# Altium schematic symbol library Connectors.SchLib: 46 symbols
Pins are listed as number, name and electrical type; pins without a type are passive.

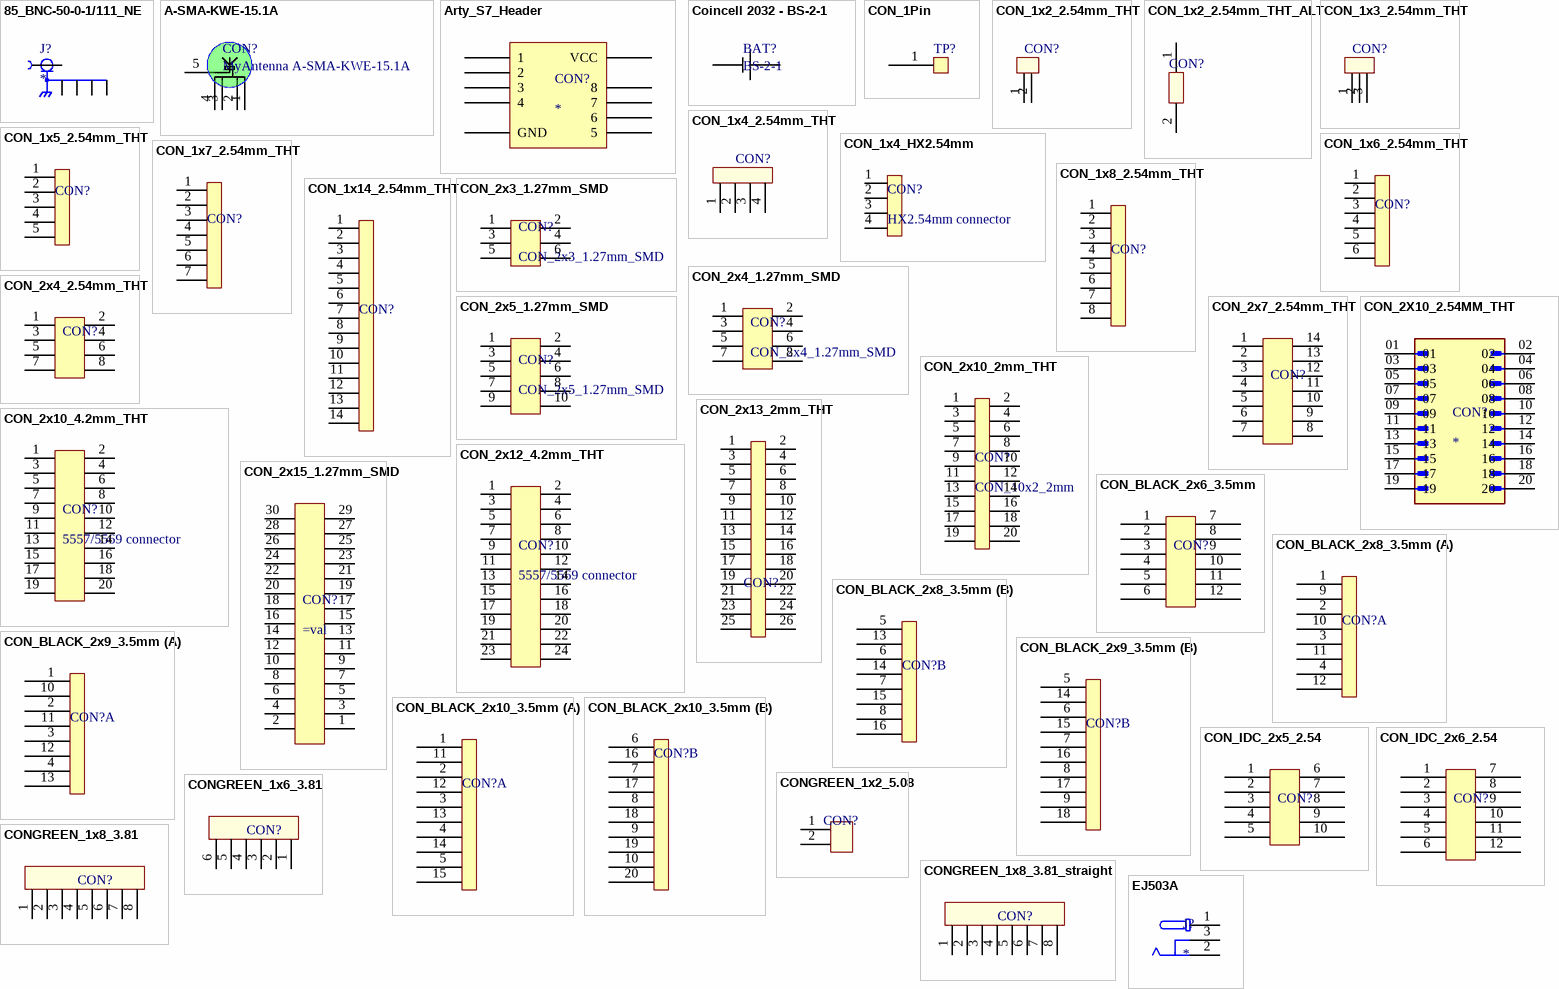
[diagram p0: symbols 85_BNC-50-0-1/111_NE to EJ503A]

## 85_BNC-50-0-1/111_NE
designator J?
RF PCB Connector, 85BNC-50-0-1111NE | HUBER+SUHNER 85_BNC-50-0-1/111_NE; SnapEDA_Link: https://www.snapeda.com/parts/85_BNC-50-0-1/111_NE/Huber%252BSuhner/view-part/?ref=snap; Package: None; Value: *; MF: HUBER+SUHNER; MP: 85_BNC-50-0-1/111_NE; Check_prices: https://www.snapeda.com/parts/85_BNC-50-0-1/111_NE/Huber%252BSuhner/view-part/?ref=eda
footprint HUBER+SUHNER_85_BNC-50-0-1/111_NE
pins: 1, G1 (power), G2 (power), G3 (power), G4 (power)

## A-SMA-KWE-15.1A
designator CON?, comment MyAntenna A-SMA-KWE-15.1A
SMA Connector - 1 Inner Bore SMA Board Side Elbow 6GHz 50Ω 5.35mm Through Hole Coaxial Connector (RF) Adapters RoHS; val: MyAntenna A-SMA-KWE-15.1A; sample link: https://www.lcsc.com/product-detail/C49253491.html?s_z=n_SMA
footprint A-SMA-KWE-15.1A (1 Inner Bore SMA Board Side Elbow 6GHz 50Ω 5.35mm Through Hole Coaxial Connector (RF) Adapters RoHS)
pins: 1, 2, 3, 4, 5

## Arty_S7_Header
designator CON?
footprint CON_2x6_2.54MM_THT; pin to pad 5>5+11 6>6+12
pins: 1, 2, 3, 4, 5 GND (power), 6 VCC (power), 7 5, 8 6, 9 7, 10 8

## Coincell 2032 - BS-2-1
designator BAT?, comment BS-2-1
Coincell 2032 - BS-2-1; note: any manufacturer; val: BS-2-1; sample link: https://item.taobao.com/item.htm?abbucket=2&id=38536074730&ns=1&spm=a230r.1.14.36.6b9547cfXdt8x6
footprint Coincell_2032
pins: 1, 2

## CON_1Pin
designator TP?  (value not drawn)
Single THT Pad; note: NC; val: *
footprint CON_1Pin
pins: 1

## CON_1x2_2.54mm_THT
designator CON?, comment 1x4 2.54mm THT  (value not drawn)
CON_1x2_2.54mm_THT; note: any manufacturer; val: 1x4 2.54mm THT
footprint CON_1x2_2.54MM_THT (Chip Resistor, 2-Leads, Body 5,20x3,30mm, IPC Medium Density)
pins: 1 "PWR", 2 "I"

## CON_1x2_2.54mm_THT_ALT
designator CON?, comment 1x4 2.54mm THT  (value not drawn)
CON_1x2_2.54mm_THT; note: any manufacturer; val: 1x4 2.54mm THT
footprint CON_1x2_2.54MM_THT (Chip Resistor, 2-Leads, Body 5,20x3,30mm, IPC Medium Density)
pins: 1 "PWR", 2 "I"

## CON_1x3_2.54mm_THT
designator CON?, comment 1x3 2.54mm THT  (value not drawn)
CON_1x3_2.54mm_THT; note: any manufacturer; val: 1x3 2.54mm THT
footprint CON_1x3_2.54MM_THT (Chip Resistor, 2-Leads, Body 5,20x3,30mm, IPC Medium Density)
pins: 1 "PWR", 2 "I", 3 "I"

## CON_1x4_2.54mm_THT
designator CON?, comment 1x4 2.54mm THT  (value not drawn)
CON_1x4_2.54mm_THT; note: any manufacturer; val: 1x4 2.54mm THT
footprint CON_1x4_2.54MM_THT (Chip Resistor, 2-Leads, Body 5,20x3,30mm, IPC Medium Density)
pins: 1 "PWR", 2 "I", 3 "I", 4 "I"

## CON_1x4_HX2.54mm
designator CON?, comment HX2.54mm connector
4 Pin HX2.54mm Connector Straight Needle THT; val: HX2.54mm connector; sample link: https://item.taobao.com/item.htm?ali_refid=a3_430582_1006%3A1152101030%3AH%3AfECOJjAJsAVR%2BlV4HdXu0w%3D%3D%3Aff1c71a36a83a51d569faca3e6e2a003&ali_trackid=282_ff1c71a36a83a51d569faca3e6e2a003&id=609608021291&mi_id=0000quewLQZSFLFE1VxBLvft_H3MzoN4Rq4bTtf1JTcVhOg&mm_sceneid=1_0_131154039_0&priceTId=2100c82017726909854371638e0cc7&skuId=4282636056709&spm=a21n57.1.hoverItem.1&utparam=%7B%22aplus_abtest%22%3A%22fb4c3022eff1f28742f3a1e939f5d12a%22%7D&xxc=ad_ztc; sample link 2: https://item.taobao.com/item.htm?abbucket=7&id=597409212146&mi_id=0000Dv6-Sh6HdzdhlDj_dX79iQDtOYoD7Rc0flFh8CmAyxg&ns=1&priceTId=2100c82017726912298546935e0cc7&skuId=4248469041168&spm=a21n57.imgsearch.item.2&utparam=%7B%22aplus_abtest%22%3A%22a76dc8be5391ba4e801be3f8b99bb3a2%22%7D&xxc=taobaoSearch
footprint CON_1x4_HX2.54mm
pins: 1, 2, 3, 4

## CON_1x5_2.54mm_THT
designator CON?, comment 1x5 2.54mm  (value not drawn)
CON_1x5_2.54mm_THT; note: any manufacturer; val: 1x5 2.54mm
footprint CON_1x5_2.54MM_THT
pins: 1, 2, 3, 4, 5

## CON_1x6_2.54mm_THT
designator CON?, comment 1x6 2.54mm  (value not drawn)
CON_1x6_2.54mm_THT; note: any manufacturer; val: 1x6 2.54mm
footprint CON_1x6_2.54MM_THT
pins: 1, 2, 3, 4, 5, 6

## CON_1x7_2.54mm_THT
designator CON?, comment 1x7 2.54mm  (value not drawn)
CON_1x7_2.54mm_THT; note: any manufacturer; val: 1x7 2.54mm
footprint CON_1x7_2.54MM_THT
pins: 1, 2, 3, 4, 5, 6, 7

## CON_1x8_2.54mm_THT
designator CON?, comment 1x8 2.54mm  (value not drawn)
CON_1x8_2.54mm_THT; note: any manufacturer; val: 1x8 2.54mm
footprint CON_1x8_2.54MM_THT (Chip Resistor, 2-Leads, Body 5,20x3,30mm, IPC Medium Density)
pins: 1, 2, 3, 4, 5, 6, 7, 8

## CON_1x14_2.54mm_THT
designator CON?, comment 1x14 2.54mm  (value not drawn)
CON_1x14_2.54mm_THT; note: any manufacturer; val: 1x14 2.54mm
footprint CON_1X14_2.54MM_THT
pins: 1, 2, 3, 4, 5, 6, 7, 8, 9, 10, 11, 12, 13, 14

## CON_2x3_1.27mm_SMD
designator CON?
CON_2x4_1.27mm SMD; sample link: https://detail.tmall.com/item.htm?abbucket=7&id=542887739976&mi_id=00001byeTU42Nw8JpqvEEJw3_ofET_pYYvzusNPfAkYixoU&ns=1&skuId=3428605315590&spm=a21n57.1.hoverItem.7&utparam=%7B%22aplus_abtest%22%3A%22c8a12318f0deb53d81deeb3f6362248f%22%7D&xxc=taobaoSearch; val: CON_2x3_1.27mm_SMD
footprint CON_2x3_1.27mm_SMD
pins: 1, 2, 3, 4, 5, 6

## CON_2x4_1.27mm_SMD
designator CON?
CON_2x4_1.27mm SMD with positioning pegs; val: CON_2x4_1.27mm_SMD; sample link: https://item.taobao.com/item.htm?abbucket=7&id=990364773282&mi_id=0000PUgFQrwyk5zXe0LhPjupg4-RZI5iYj2pUu42m8jPTP4&ns=1&priceTId=2100c91e17720165420351112e0d0f&skuId=6122925414288&spm=a21n57.1.hoverItem.9&utparam=%7B%22aplus_abtest%22%3A%22e514192708b4c6914c5abc03ef6ba092%22%7D&xxc=taobaoSearch
footprint CON_2x4_1.27mm_SMD
pins: 1, 2, 3, 4, 5, 6, 7, 8

## CON_2x4_2.54mm_THT
designator CON?, comment 2x4 2.54mm THT  (value not drawn)
CON_2x4_2.54mm_THT; note: any manufacturer; val: 2x4 2.54mm THT
footprint CON_2x4_2.54MM_THT
pins: 1, 2, 3, 4, 5, 6, 7, 8

## CON_2x5_1.27mm_SMD
designator CON?
CON_2x5_1.27mm SMD with positioning pegs; sample link: https://item.taobao.com/item.htm?abbucket=7&id=990364773282&mi_id=0000PUgFQrwyk5zXe0LhPjupg4-RZI5iYj2pUu42m8jPTP4&ns=1&priceTId=2100c91e17720165420351112e0d0f&skuId=6122925414289&spm=a21n57.1.hoverItem.9&utparam=%7B%22aplus_abtest%22%3A%22e514192708b4c6914c5abc03ef6ba092%22%7D&xxc=taobaoSearch; val: CON_2x5_1.27mm_SMD
footprint CON_2x5_1.27mm_SMD
pins: 1, 2, 3, 4, 5, 6, 7, 8, 9, 10

## CON_2x7_2.54mm_THT
designator CON?, comment 2x7 2.54mm  (value not drawn)
CON_2x7_2.54mm_THT; note: any manufacturer; val: 2x7 2.54mm
footprint CON_2x7_2.54MM_THT
pins: 1, 2, 3, 4, 5, 6, 7, 8, 9, 10, 11, 12, 13 "PWR", 14 "PWR"

## CON_2X10_2.54MM_THT
designator CON?
MP: VMHD-2x10-150-095-030; Availability: Unavailable; Package: None; Price: None; Value: *
footprint CON_2X10_2.54MM_THT
pins: 01, 02, 03, 04, 05, 06, 07, 08, 09, 10, 11, 12, 13, 14, 15, 16, 17, 18, 19, 20

## CON_2x10_2mm_THT
designator CON?, comment CON_10x2_2mm
CON_2x10_2mm_THT Straight Pin; sample link: https://item.taobao.com/item.htm?id=534188799238&spm=a1z10.5-c.w4002-17382155375.12.655756c29WaZFO&sku_properties=1627207%3A2525007165; val: CON_10x2_2mm
footprint CON_2x10_2mm_THT
pins: 1, 2, 3, 4, 5, 6, 7, 8, 9, 10, 11, 12, 13, 14, 15, 16, 17, 18, 19, 20

## CON_2x10_4.2mm_THT
designator CON?, comment 5557/5569 connector
CON_2x10_4.2mm_THT Straight Pin; sample link: https://item.taobao.com/item.htm?abbucket=17&id=557446625982&ns=1&spm=a230r.1.14.26.4ae16218Zr5FXY&skuId=3456302328403; val: 5557/5569 connector
footprint CON_2x10_4.2mm_THT
pins: 1, 2, 3, 4, 5, 6, 7, 8, 9, 10, 11, 12, 13, 14, 15, 16, 17, 18, 19, 20

## CON_2x12_4.2mm_THT
designator CON?, comment 5557/5569 connector
CON_2x12_4.2mm_THT Straight Pin; sample link: https://item.taobao.com/item.htm?abbucket=17&id=557446625982&ns=1&skuId=3642191258094&spm=a230r.1.14.26.4ae16218Zr5FXY; val: 5557/5569 connector
footprint CON_2x12_4.2mm_THT
pins: 1, 2, 3, 4, 5, 6, 7, 8, 9, 10, 11, 12, 13, 14, 15, 16, 17, 18, 19, 20, 21, 22, 23, 24

## CON_2x13_2mm_THT
designator CON?  (value not drawn)
CON_2x13_2mm_AWP26_2mm; val: CON_2x13_2mm_THT; sample link: https://item.taobao.com/item.htm?id=534188799238&spm=a1z10.5-c.w4002-17382155375.12.655756c29WaZFO&sku_properties=1627207%3A2525007167
footprint CON_2x13_2mm_THT
pins: 1, 2, 3, 4, 5, 6, 7, 8, 9, 10, 11, 12, 13, 14, 15, 16, 17, 18, 19, 20, 21 "I", 22 "I", 23 "I", 24 "I", 25 "I", 26 "I"

## CON_2x15_1.27mm_SMD
designator CON?
CON_2x15_1.27mm SMD with positioning pegs; sample link: https://item.taobao.com/item.htm?abbucket=7&id=990364773282&mi_id=0000PUgFQrwyk5zXe0LhPjupg4-RZI5iYj2pUu42m8jPTP4&ns=1&priceTId=2100c91e17720165420351112e0d0f&skuId=6122925414294&spm=a21n57.1.hoverItem.9&utparam=%7B%22aplus_abtest%22%3A%22e514192708b4c6914c5abc03ef6ba092%22%7D&xxc=taobaoSearch
footprint CON_2x15_1.27mm_SMD
pins: 1, 2, 3, 4, 5, 6, 7, 8, 9, 10, 11, 12, 13, 14, 15, 16, 17, 18, 19, 20, 21, 22, 23, 24, 25, 26, 27, 28, 29, 30

## CON_BLACK_2x6_3.5mm
designator CON?, comment KF2EDGSV-3.5-2*8P  (value not drawn)
300V -40℃~+105℃ 8 10A Black 3.5mm Board Side/Socket - Closed 2 2x8P Straight Pin Through Hole,P=3.5mm Headers, Plugs and Sockets RoHS; note: any manufacturer; val: KF2EDGSV-3.5-2*8P; sample link: https://item.taobao.com/item.htm?id=654108697549&last_time=1765862189&mi_id=00003wfGBEcvtUKEhEmhOd_nwq-6bMiOgI4-hHG0audKinI&scm=1007.13982.82927.0&spm=tbpc.mytb_footmark.item.goods&upStreamPrice=80&skuId=4896664375717
footprint CON_BLACK_2X6_3.5MM
pins: 1, 2, 3, 4, 5, 6, 7, 8, 9, 10, 11, 12

## CON_BLACK_2x8_3.5mm
designator CON?, comment KF2EDGSV-3.5-2*8P  (value not drawn)
300V -40℃~+105℃ 8 10A Black 3.5mm Board Side/Socket - Closed 2 2x8P Straight Pin Through Hole,P=3.5mm Headers, Plugs and Sockets RoHS; note: any manufacturer; val: KF2EDGSV-3.5-2*8P; sample link: https://item.taobao.com/item.htm?id=654108697549&last_time=1765862189&mi_id=00003wfGBEcvtUKEhEmhOd_nwq-6bMiOgI4-hHG0audKinI&scm=1007.13982.82927.0&spm=tbpc.mytb_footmark.item.goods&upStreamPrice=80&skuId=4896664375717
footprint CON_BLACK_2x8_3.5mm (15EDGKNH KF2EDGKS 3.5 Double-layer spring-loaded PCB terminal block 2EDGSR black terminal)
part A pins: 1, 2, 3, 4, 9, 10, 11, 12
part B pins: 5 15, 6, 7, 8, 13, 14, 15, 16

## CON_BLACK_2x9_3.5mm
designator CON?, comment KF2EDGSV-3.5-2*8P  (value not drawn)
300V -40℃~+105℃ 8 10A Black 3.5mm Board Side/Socket - Closed 2 2x8P Straight Pin Through Hole,P=3.5mm Headers, Plugs and Sockets RoHS; note: any manufacturer; val: KF2EDGSV-3.5-2*8P; sample link: https://item.taobao.com/item.htm?id=654108697549&last_time=1765862189&mi_id=00003wfGBEcvtUKEhEmhOd_nwq-6bMiOgI4-hHG0audKinI&scm=1007.13982.82927.0&sku_properties=1627207%3A387614636&spm=tbpc.mytb_footmark.item.goods&upStreamPrice=80
footprint CON_BLACK_2x9_3.5mm (15EDGKNH KF2EDGKS 3.5 Double-layer spring-loaded PCB terminal block 2EDGSR black terminal)
part A pins: 1, 2, 3, 4, 10, 11, 12, 13
part B pins: 5 15, 6, 7, 8, 9, 14, 15, 16, 17, 18

## CON_BLACK_2x10_3.5mm
designator CON?, comment KF2EDGSV-3.5-2*8P  (value not drawn)
300V -40℃~+105℃ 8 10A Black 3.5mm Board Side/Socket - Closed 2 2x8P Straight Pin Through Hole,P=3.5mm Headers, Plugs and Sockets RoHS; note: any manufacturer; val: KF2EDGSV-3.5-2*8P; sample link: https://item.taobao.com/item.htm?id=654108697549&last_time=1765862189&mi_id=00003wfGBEcvtUKEhEmhOd_nwq-6bMiOgI4-hHG0audKinI&scm=1007.13982.82927.0&sku_properties=1627207%3A402630518&spm=tbpc.mytb_footmark.item.goods&upStreamPrice=80
footprint CON_BLACK_2x10_3.5mm (15EDGKNH KF2EDGKS 3.5 Double-layer spring-loaded PCB terminal block 2EDGSR black terminal)
part A pins: 1, 2, 3, 4, 5, 11, 12, 13, 14, 15
part B pins: 6, 7, 8, 9, 10, 16, 17, 18, 19, 20

## CON_IDC_2x5_2.54
designator CON?, comment BOOMELE(Boom Precision Elec) 2.54-2*5P  (value not drawn)
IDC Connector 2x5 2.54mm pitch; note: any manufacturer; sample link: https://www.lcsc.com/product-detail/C5665.html?s_z=n_BOOMELE%28Boom%2520Precision%2520Elec%29%25202.54-2%2a5P; val: BOOMELE(Boom Precision Elec) 2.54-2*5P; sample link 2: https://item.taobao.com/item.htm?abbucket=6&id=993023982089&mi_id=0000GEDCW2nKoxRS0fGuseLde_Ydw6WZPxIkokftyIfzx-o&ns=1&priceTId=2100c88e17726963391222098e0cf7&skuId=5969453845356&spm=a21n57.1.hoverItem.2&utparam=%7B%22aplus_abtest%22%3A%22b8c570614af0c2c915e1844a14ab4fb4%22%7D&xxc=taobaoSearch
footprint CON_IDC_2x5_2.54
pins: 1, 2, 3, 4, 5, 6, 7, 8, 9, 10

## CON_IDC_2x6_2.54
designator CON?, comment BOOMELE(Boom Precision Elec) 2.54-2*6P  (value not drawn)
IDC Connector 2x6 2.54mm pitch; note: any manufacturer; sample link: https://www.lcsc.com/product-detail/C9136.html; val: BOOMELE(Boom Precision Elec) 2.54-2*6P
footprint CON_IDC_2x6_2.54
pins: 1, 2, 3, 4, 5, 6, 7, 8, 9, 10, 11, 12

## CONGREEN_1x2_5.08
designator CON?, comment KF2EDGV-bend-5.08-2p  (value not drawn)
Green Connector; / 90 Deg; / Standard Power CON;; note: any manufacturer; val: KF2EDGV-bend-5.08-2p; sample link: https://item.taobao.com/item.htm?id=627937673630&ali_refid=a3_430620_1006:1357150152:N:qcFFAXKWVXPiAomGkMlNEA%3D%3D:4aff8ccc3e7e8f00aa33368873902164&ali_trackid=230_4aff8ccc3e7e8f00aa33368873902164&spm=a230r.1.14.8#detail
footprint CONGREEN_1x2_5.08
pins: 1, 2

## CONGREEN_1x6_3.81
designator CON?, comment KF2EDGV-bend-3.81-6p  (value not drawn)
note: any manufacturer; val: KF2EDGV-bend-3.81-6p; sample link: https://detail.tmall.com/item.htm?abbucket=7&id=563239224672&mi_id=0000eNg2RX4a54sA2dO6nQBcXewI5pOIaHq0cbOnq7H1ZG4&ns=1&priceTId=2100c82417719338414588309e0c91&skuId=3549204641034&spm=a21n57.1.hoverItem.2&utparam=%7B%22aplus_abtest%22%3A%22cd8050d06d499e492f7c0b37ee11abfb%22%7D&xxc=taobaoSearch
footprint CONGREEN_1x6_3.81 (SOIC, 100-Leads, Body 64,17x3,05mm, Pitch 1,27mm, IPC Medium Density)
pins: 1, 2, 3, 4, 5, 6

## CONGREEN_1x8_3.81
designator CON?, comment KF2EDGV-bend-3.81-8p  (value not drawn)
note: any manufacturer; val: KF2EDGV-bend-3.81-8p; sample link: https://detail.tmall.com/item.htm?abbucket=7&id=563239224672&mi_id=0000eNg2RX4a54sA2dO6nQBcXewI5pOIaHq0cbOnq7H1ZG4&ns=1&priceTId=2100c82417719338414588309e0c91&skuId=3549204641036&spm=a21n57.1.hoverItem.2&utparam=%7B%22aplus_abtest%22%3A%22cd8050d06d499e492f7c0b37ee11abfb%22%7D&xxc=taobaoSearch
footprint CONGREEN_1X8_3.81 (SOIC, 100-Leads, Body 64,17x3,05mm, Pitch 1,27mm, IPC Medium Density)
pins: 1, 2, 3, 4, 5, 6, 7, 8

## CONGREEN_1x8_3.81_straight
designator CON?, comment KF2EDGV-straight-3.81-8p  (value not drawn)
note: any manufacturer; val: KF2EDGV-straight-3.81-8p; sample link: https://detail.tmall.com/item.htm?abbucket=7&id=563239224672&mi_id=0000eNg2RX4a54sA2dO6nQBcXewI5pOIaHq0cbOnq7H1ZG4&ns=1&priceTId=2100c82417719338414588309e0c91&skuId=3549204641021&spm=a21n57.1.hoverItem.2&utparam=%7B%22aplus_abtest%22%3A%22cd8050d06d499e492f7c0b37ee11abfb%22%7D&xxc=taobaoSearch
footprint CONGREEN_1X8_3.81 - Straight (Straight Pin 3.81MM Pitch green connector)
pins: 1, 2, 3, 4, 5, 6, 7, 8

## EJ503A
designator J?
Power Barrel Connector Jack 2.10mm ID (0.083), 5.50mm OD (0.217) Through Hole, Right Angle; MF: MPD; MP: EJ503A; Package: None; Price: None; Check_prices: https://www.snapeda.com/parts/EJ503A/MPD+%2528Memory+Protection+Devices%2529/view-part/?ref=eda; Value: *; SnapEDA_Link: https://www.snapeda.com/parts/EJ503A/MPD+%2528Memory+Protection+Devices%2529/view-part/?ref=snap; Availability: In Stock; Purchase-URL: https://pricing.snapeda.com/search?q=EJ503A&ref=eda
footprint MPD_EJ503A
pins: 1, 2, 3

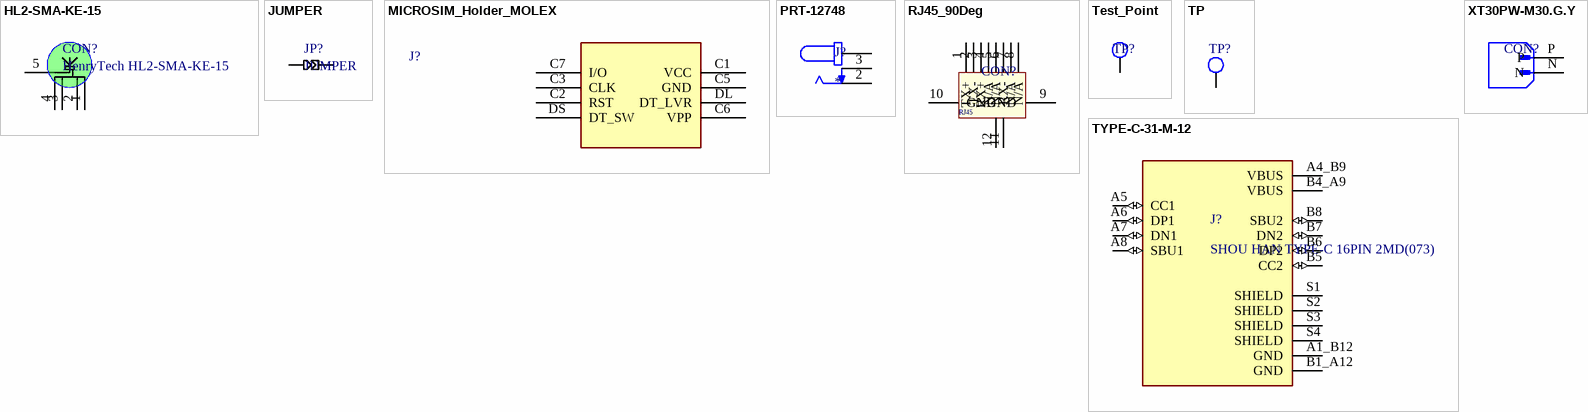
[diagram p1: symbols HL2-SMA-KE-15 to XT30PW-M30.G.Y]

## HL2-SMA-KE-15
designator CON?, comment HenryTech HL2-SMA-KE-15
SMA Connector - Through Hole Coaxial Connector (RF) Adapters RoHS; val: HenryTech HL2-SMA-KE-15; sample link: https://www.lcsc.com/product-detail/C53278699.html
footprint HL2-SMA-KE-15 (Through Hole Coaxial Connector (RF) Adapters RoHS)
pins: 1, 2, 3, 4, 5

## JUMPER
designator JP?
footprint jumper
pins: 1, 2

## MICROSIM_Holder_MOLEX
designator J?, comment 5039600696  (value not drawn)
8 (6 + 2) Position Card Connector Micro SIM Surface Mount, Right Angle Gold; note: Original; val: 5039600696; sample link: https://www.lcsc.com/product-detail/C132719.html
footprint MICROSIM_Holder_MOLEX
pins: C1 VCC, C2 RST, C3 CLK, C5 GND, C6 VPP, C7 I/O, DL DT_LVR, DS DT_SW

## PRT-12748
designator J?
SparkFun Accessories DC Barrel Power Jack Connector SMD; MP: PRT-12748; Value: *; SnapEDA_Link: https://www.snapeda.com/parts/PRT-12748/SparkFun/view-part/?ref=snap; Purchase-URL: https://pricing.snapeda.com/search/part/PRT-12748/?ref=eda; Check_prices: https://www.snapeda.com/parts/PRT-12748/SparkFun/view-part/?ref=eda; Availability: In Stock; Price: None; Package: None; MF: SparkFun
footprint SPARKFUN_PRT-12748
pins: 1_1 1, 1_2 1, 2, 3

## RJ45_90Deg
designator CON?, comment Rj45 socket, 8p8c full, horizontal  (value not drawn)
RJ45 Connector - Ethernet Connector - 90 Degrees; note: Good Quality; val: Rj45 socket, 8p8c full, horizontal; sample link: https://www.lcsc.com/product-detail/Ethernet-Connectors-Modular-Connectors-span-style-background-color-ff0-RJ45-span-RJ11_Ckmtw-Shenzhen-Cankemeng-R-RJ45R10P-B000_C386758.html
footprint RJ45_90Deg
pins: 1 TX+, 2 TX-, 3 RX+, 4 N/A, 5 N/A, 6 RX-, 7 N/A, 8 N/A, 9 GND, 10 GND, 11, 12
text: RJ45

## Test_Point
designator TP?, comment TP  (value not drawn)
footprint CON_TP (Test Point)
pins: 1 A1

## TP
designator TP?
footprint TP_D1mm
pins: A1

## TYPE-C-31-M-12
designator J?, comment SHOU HAN TYPE-C 16PIN 2MD(073)
USB-C (USB TYPE-C) Receptacle Connector 16 Position Surface Mount, Right Angle; val: SHOU HAN TYPE-C 16PIN 2MD(073); note: *; sample link: https://www.lcsc.com/product-detail/C2765186.html?s_z=n_type%2520C
footprint HRO_TYPE-C-31-M-12
pins: A1_B12 GND (power), A4_B9 VBUS (power), A5 CC1 (io), A6 DP1 (io), A7 DN1 (io), A8 SBU1 (io), B1_A12 GND (power), B4_A9 VBUS (power), B5 CC2 (io), B6 DP2 (io), B7 DN2 (io), B8 SBU2 (io), S1 SHIELD, S2 SHIELD, S3 SHIELD, S4 SHIELD

## XT30PW-M30.G.Y
designator CON?, comment Changzhou Amass Elec XT30PW-M30.G.Y  (value not drawn)
Banana and Tip Connector Adapters RoHS; note: any manufacturer; val: Changzhou Amass Elec XT30PW-M30.G.Y; sample link: https://www.lcsc.com/product-detail/C431092.html
footprint XT30PW-M30.G.Y
pins: N (power), P (power)